# EAGLE library part STM32F042F6P6 (library POVLibrary)
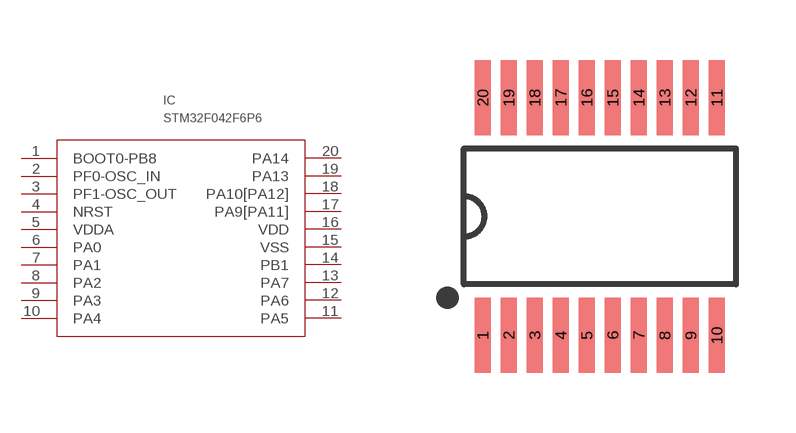
[diagram p0: symbol with the pads of SM_TSSOP20; footprint SM_TSSOP20]

Designator prefix IC

## STM32F042F6P6  [SM_TSSOP20]
1  BOOT0-PB8
2  PF0-OSC_IN
3  PF1-OSC_OUT
4  NRST
5  VDDA
6  PA0
7  PA1
8  PA2
9  PA3
10  PA4
11  PA5
12  PA6
13  PA7
14  PB1
15  VSS
16  VDD
17  PA9[PA11]
18  PA10[PA12]
19  PA13
20  PA14

## Footprint SM_TSSOP20 (pad centres in mm)
smd 0.4 x 1.88: 1 -2.925,-2.97; 2 -2.275,-2.97; 3 -1.625,-2.97; 4 -0.975,-2.97; 5 -0.325,-2.97; 6 0.325,-2.97; 7 0.975,-2.97; 8 1.625,-2.97; 9 2.275,-2.97; 10 2.925,-2.97; 11 2.925,2.97; 12 2.275,2.97; 13 1.625,2.97; 14 0.975,2.97; 15 0.325,2.97; 16 -0.325,2.97; 17 -0.975,2.97; 18 -1.625,2.97; 19 -2.275,2.97; 20 -2.925,2.97